# Altium schematic symbol library SCH - DAC - ANALOG DEVICES AD9776A.SCHLIB: 1 symbol
Pins are listed as number, name and electrical type; pins without a type are passive.

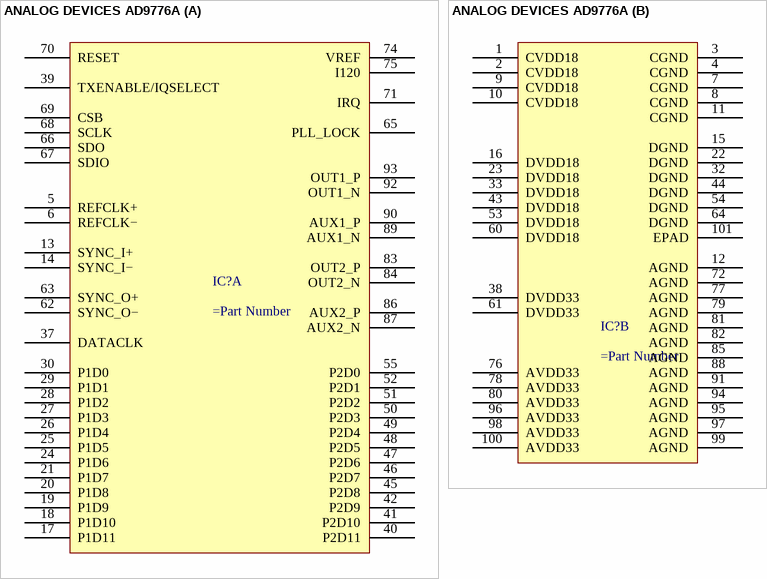
[diagram p0: symbol ANALOG DEVICES AD9776A]

## ANALOG DEVICES AD9776A
designator IC?
part A pins: 5 REFCLK+, 6 REFCLK−, 13 SYNC_I+, 14 SYNC_I−, 17 P1D11, 18 P1D10, 19 P1D9, 20 P1D8, 21 P1D7, 24 P1D6, 25 P1D5, 26 P1D4, 27 P1D3, 28 P1D2, 29 P1D1, 30 P1D0, 37 DATACLK, 39 TXENABLE/IQSELECT, 40 P2D11, 41 P2D10, 42 P2D9, 45 P2D8, 46 P2D7, 47 P2D6, 48 P2D5, 49 P2D4, 50 P2D3, 51 P2D2, 52 P2D1, 55 P2D0, 62 SYNC_O−, 63 SYNC_O+, 65 PLL_LOCK, 66 SDO, 67 SDIO, 68 SCLK, 69 CSB, 70 RESET, 71 IRQ, 74 VREF, 75 I120, 83 OUT2_P, 84 OUT2_N, 86 AUX2_P, 87 AUX2_N, 89 AUX1_N, 90 AUX1_P, 92 OUT1_N, 93 OUT1_P
part B pins: 1 CVDD18, 2 CVDD18, 3 CGND, 4 CGND, 7 CGND, 8 CGND, 9 CVDD18, 10 CVDD18, 11 CGND, 12 AGND, 15 DGND, 16 DVDD18, 22 DGND, 23 DVDD18, 32 DGND, 33 DVDD18, 38 DVDD33, 43 DVDD18, 44 DGND, 53 DVDD18, 54 DGND, 60 DVDD18, 61 DVDD33, 64 DGND, 72 AGND, 76 AVDD33, 77 AGND, 78 AVDD33, 79 AGND, 80 AVDD33, 81 AGND, 82 AGND, 85 AGND, 88 AGND, 91 AGND, 94 AGND, 95 AGND, 96 AVDD33, 97 AGND, 98 AVDD33, 99 AGND, 100 AVDD33, 101 EPAD